# Altium footprint library ISSI_SDRAM.PcbLib: 1 footprints
Each footprint in its own frame and in the unit in brackets; x right, y up, seen from the top. Pads: shape width x height; smd on the part's side, far side on the other; paste and mask are expansions set on the pad; w line width, h text height; cw(c..) or ccw(c..) is an arc to the next point about the centre after c.
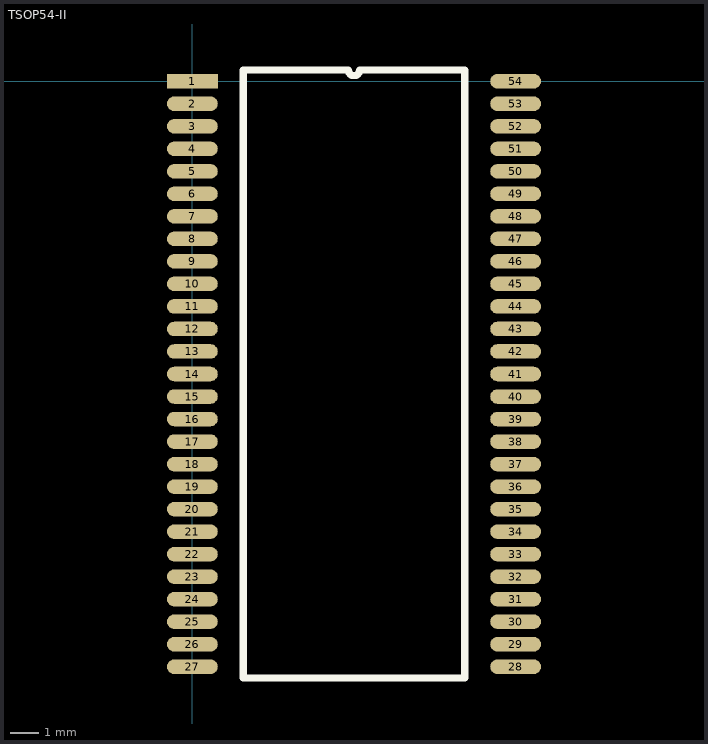
[diagram p0: the footprint, top view; thin cyan lines are the x and y axes]

## TSOP54-II [mil]
pads (54):
  rect 70x20 smd: 1(0,0)
  oval 70x20 smd: 2(0,-31) 3(0,-62) 4(0,-93) 5(0,-124) 6(0,-155) 7(0,-186) 8(0,-217) 9(0,-248) 10(0,-279) 11(0,-310) 12(0,-341) 13(0,-372) 14(0,-403) 15(0,-434) 16(0,-465) 17(0,-496) 18(0,-527) 19(0,-558) 20(0,-589) 21(0,-620) 22(0,-651) 23(0,-682) 24(0,-713) 25(0,-744) 26(0,-775) 27(0,-806) 28(445,-806) 29(445,-775) 30(445,-744) 31(445,-713) 32(445,-682) 33(445,-651) 34(445,-620) 35(445,-589) 36(445,-558) 37(445,-527) 38(445,-496) 39(445,-465) 40(445,-434) 41(445,-403) 42(445,-372) 43(445,-341) 44(445,-310) 45(445,-279) 46(445,-248) 47(445,-217) 48(445,-186) 49(445,-155) 50(445,-124) 51(445,-93) 52(445,-62) 53(445,-31) 54(445,0)
Top Overlay:
  lines w10: 70,-821.5 70,15.5 214.75,15.5 ccw(c222.5,15.5) 230.25,15.5 375,15.5 375,-821.5 70,-821.5